# Altium footprint library Pasive.PcbLib: 34 footprints (part 1 of 3)
Each footprint in its own frame and in the unit in brackets; x right, y up, seen from the top. Pads: shape width x height; smd on the part's side, far side on the other; paste and mask are expansions set on the pad; w line width, h text height; cw(c..) or ccw(c..) is an arc to the next point about the centre after c.
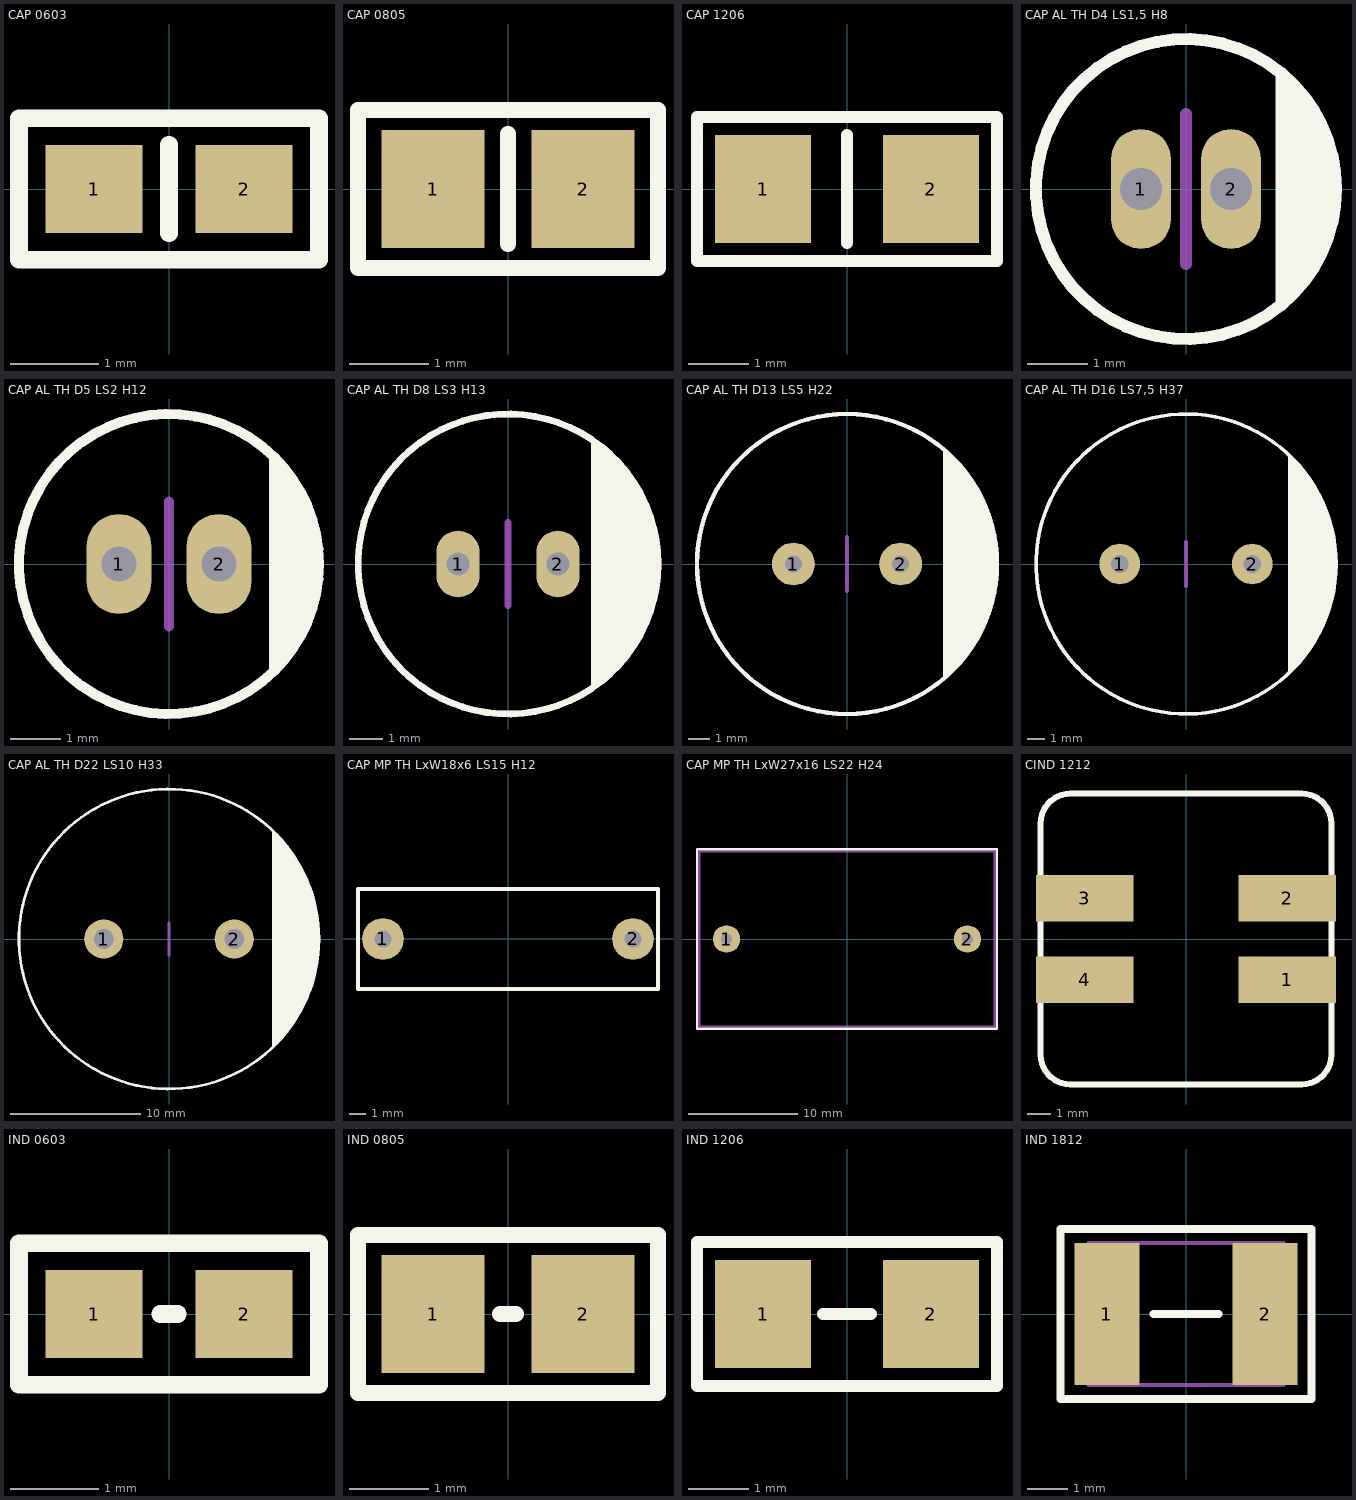
[diagram p0: the footprints below, top view; thin cyan lines are the x and y axes]

## CAP 0603 [mm] "Chip Capacitor; Body 1.6 x 0.8 mm (LxW typ)"
height 0.87
pads (2):
  rect 1.1x1 smd: 1(-0.85,0) 2(0.85,0)
Top Overlay:
  lines w0.2: 0,-0.5 0,0.5 ; -1.7,-0.8 -1.7,0.8 1.7,0.8 1.7,-0.8 -1.7,-0.8
3D body "0603 cap.STEP": height 0.82, standoff 0, extent -0.8,-0.412 0.8,0.412

## CAP 0805 [mm] "Chip Capacitor; Body 2.0 x 1.2 mm (LxW typ)"
height 1.3
pads (2):
  rect 1.3x1.5 smd: 1(-0.95,0) 2(0.95,0)
Top Overlay:
  lines w0.2: 0,-0.7 0,0.7 ; -1.9,-1 1.9,-1 1.9,1 -1.9,1 -1.9,-1
3D body "0805 cap.STEP": height 1.26, standoff -0.02, extent -1,-0.637 1,0.637

## CAP 1206 [mm] "Chip Capacitor; Body 3.2 x 1.6 mm (LxW typ)"
height 1.5
pads (2):
  rect 1.6x1.8 smd: 1(-1.4,0) 2(1.4,0)
Top Overlay:
  lines w0.2: 0,-0.9 0,0.9 ; -2.5,-1.2 -2.5,1.2 2.5,1.2 2.5,-1.2 -2.5,-1.2
3D body "1206 cap.STEP": height 1.62, standoff 0, extent -1.6,-0.812 1.6,0.812

## CAP AL TH D4 LS1,5 H8 [mm] "4mm Diameter, 1,5mm Lead Spacing Aluminium Capacitor"
height 8
pads (2):
  oval 1x2 hole 0.7: 1(-0.75,0) 2(0.75,0)
Top Overlay:
  circle w0.2: c0,0 r2.5
  region: 1.5,2 1.5,-2 1.9,-1.6 2.2,-1.2 2.4,-0.7 2.5,-0.2 2.5,0.2 2.4,0.7 2.2,1.2 1.9,1.6
Mechanical 13:
  circle w0.2: c0,0 r2.5
Mechanical 15:
  lines w0.2: 0,-1.25 0,1.25
3D body "LS1,5.stp": height 8, standoff -19.7, extent -2.262,-2.262 2.262,2.262

## CAP AL TH D5 LS2 H12 [mm] "5mm Diameter, 2mm Lead Spacing Aluminium Capacitor"
height 12
pads (2):
  oval 1.3x2 hole 0.7: 1(-1,0) 2(1,0)
Top Overlay:
  circle w0.2: c0,0 r3
  region: 2,2.2 2,-2.2 2.4,-1.8 2.7,-1.3 2.9,-0.8 3,-0.3 3,0.2 2.9,0.8 2.7,1.3 2.3,1.9
Mechanical 13:
  circle w0.2: c0,0 r3
Mechanical 15:
  lines w0.2: 0,-1.25 0,1.25
3D body "LS2.stp": height 12, standoff -19.7, extent -2.763,-2.765 2.764,2.766

## CAP AL TH D8 LS3 H13 [mm] "8mm Diameter, 3mm Lead Spacing Aluminium Capacitor"
height 13
pads (2):
  oval 1.3x2 hole 0.7: 1(-1.5,0) 2(1.5,0)
Top Overlay:
  circle w0.2: c0,0 r4.5
  region: 2.5,3.7 2.5,-3.7 3.2,-3.2 3.7,-2.6 4.1,-1.9 4.4,-1.1 4.5,0 4.4,0.8 4.2,1.6 3.9,2.2 3.5,2.8 3,3.4
Mechanical 13:
  circle w0.2: c0,0 r4.5
Mechanical 15:
  lines w0.2: 0,-1.25 0,1.25
3D body "LS3.stp": height 13, standoff -19.7, extent -4.274,-4.274 4.274,4.274

## CAP AL TH D13 LS5 H22 [mm] "13mm Diameter, 5mm Lead Spacing Aluminium Capacitor"
height 22
pads (2):
  round 2 hole 0.8: 1(-2.5,0) 2(2.5,0)
Top Overlay:
  circle w0.2: c0,0 r7
  region: 4.5,-5.3 5.2,-4.7 5.8,-3.9 6.3,-3.1 6.6,-2.3 6.9,-1.4 7,-0.3 7,0.6 6.8,1.6 6.5,2.6 6,3.6 5.4,4.4 4.5,5.3
Mechanical 13:
  circle w0.2: c0,0 r7
Mechanical 15:
  lines w0.2: 0,-1.25 0,1.25
3D body "LS5.stp": height 22, standoff -19.7, extent -6.538,-6.538 6.536,6.536

## CAP AL TH D16 LS7,5 H37 [mm] "16mm Diameter, 7,5mm Lead Spacing Aluminium Capacitor"
height 37
pads (2):
  round 2.3 hole 1: 1(-3.75,0) 2(3.75,0)
Top Overlay:
  circle w0.2: c0,0 r8.5
  region: 5.8,-6.2 6.4,-5.6 7,-4.8 7.5,-4 7.9,-3.1 8.3,-2 8.5,-0.8 8.5,0.6 8.3,1.7 8.1,2.7 7.7,3.6 7.1,4.7 6.4,5.6 5.8,6.2
Mechanical 13:
  circle w0.2: c0,0 r8.5
Mechanical 15:
  lines w0.2: 0,-1.25 0,1.25
3D body "LS7,5.stp": height 37, standoff -19.7, extent -8.299,-8.297 8.293,8.295

## CAP AL TH D22 LS10 H33 [mm] "22mm Diameter, 10mm Lead Spacing Aluminium Capacitor"
height 33
pads (2):
  round 3 hole 1.5: 1(-5,0) 2(5,0)
Top Overlay:
  circle w0.2: c0,0 r11.5
  region: 7.9,8.3 7.9,-8.3 8.8,-7.4 9.5,-6.5 10.1,-5.6 10.6,-4.4 11,-3.3 11.4,-1.9 11.5,-0.4 11.5,0.9 11.3,2 10.9,3.6 10.4,4.9 9.7,6.2 8.8,7.4
Mechanical 13:
  circle w0.2: c0,0 r11.5
Mechanical 15:
  lines w0.2: 0,-1.25 0,1.25
3D body "LS10.stp": height 33, standoff -19.7, extent -11.314,-11.314 11.314,11.314

## CAP MP TH LxW18x6 LS15 H12 [mm] "Metallised Polyester Film Capacitor, length 18mm, width 6mm, lead spacing 15mm, height 12mm"
height 12
pads (2):
  round 2.5 hole 1: 1(-7.5,0) 2(7.5,0)
Top Overlay:
  lines w0.254: -9,-3 9,-3 9,3 -9,3 -9,-3
3D body: height 23, standoff 0, extent -9,-3 9,3

## CAP MP TH LxW27x16 LS22 H24 [mm] "Metallised Polyester Film Capacitor, length 27mm, width 16mm, lead spacing 22mm, height 24mm"
height 24
pads (2):
  round 2.5 hole 1: 1(-11,0) 2(11,0)
Top Overlay:
  lines w0.2: -13.7,-8.2 -13.7,8.2 13.7,8.2 13.7,-8.2 -13.7,-8.2
Mechanical 1:
  lines w0.2: -13.5,-8 13.5,-8 13.5,8 -13.5,8 -13.5,-8
3D body: height 23, standoff 0, extent -13.5,-8 13.5,8

## CIND 1212 [mm] "Coupled power Inductor, 4-Leads, Body 12.5mm x 12.5mm x 8.5mm"
height 8.5
pads (4):
  rect 4.2x2 smd: 1(4.35,-1.75) 2(4.35,1.75) 3(-4.35,1.75) 4(-4.35,-1.75)
Top Overlay:
  lines w0.254: -6.25,-4.98 ccw(c-4.98,-4.98) -4.98,-6.25 4.98,-6.25 ccw(c4.98,-4.98) 6.25,-4.98 6.25,4.98 ccw(c4.98,4.98) 4.98,6.25 -4.98,6.25 ccw(c-4.98,4.98) -6.25,4.98 -6.25,-4.98
3D body "PI_master.stp": height 10.6, standoff 0, extent -6.25,-6.25 6.25,6.25

## IND 0603 [mm] "Chip Capacitor; Body 1.6 x 0.8 mm (LxW typ)"
height 0.87
pads (2):
  rect 1.1x1 smd: 1(-0.85,0) 2(0.85,0)
Top Overlay:
  lines w0.2: -0.1,0 0.1,0 ; -1.7,-0.8 1.7,-0.8 1.7,0.8 -1.7,0.8 -1.7,-0.8
3D body "CAP_master.stp": height 0.46, standoff 0.01, extent -0.775,-0.425 0.775,0.425

## IND 0805 [mm] "Chip Capacitor; Body 2.0 x 1.2 mm (LxW typ)"
height 1.3
pads (2):
  rect 1.3x1.5 smd: 1(-0.95,0) 2(0.95,0)
Top Overlay:
  lines w0.2: -0.1,0 0.1,0 ; -1.9,-1 -1.9,1 1.9,1 1.9,-1 -1.9,-1
3D body "CAP_master.stp": height 0.46, standoff 0.01, extent -1,-0.6 1,0.6

## IND 1206 [mm] "Chip Capacitor; Body 3.2 x 1.6 mm (LxW typ)"
height 1.5
pads (2):
  rect 1.6x1.8 smd: 1(-1.4,0) 2(1.4,0)
Top Overlay:
  lines w0.2: -0.4,0 0.4,0 ; -2.5,-1.2 -2.5,1.2 2.5,1.2 2.5,-1.2 -2.5,-1.2
3D body "CAP_master.stp": height 0.56, standoff 0.01, extent -1.6,-0.8 1.6,0.8

## IND 1812 [mm] "Chip Inductor, 2-Leads, Body 4.50x3.20mm, IPC Medium Density"
height 1.1
pads (2):
  rect 1.6x3.5 smd: 1(-1.95,0) 2(1.95,0)
Top Overlay:
  lines w0.2: -0.8,0 0.8,0 ; -3.1,-2.1 -3.1,2.1 3.1,2.1 3.1,-2.1 -3.1,-2.1
Mechanical 13:
  lines w0.1: -2.4,-1.75 2.4,-1.75 2.4,1.75 -2.4,1.75 -2.4,-1.75
3D body "CAP 1812-1.1mm.STEP": height 1.1, standoff 0, extent -2.25,-1.6 2.25,1.6